# Altium schematic symbol library ESDA6V1-5SC6.SchLib: 2 symbols
Pins are listed as number, name and electrical type; pins without a type are passive.

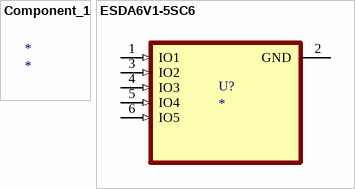
[diagram p0: symbols Component_1 to ESDA6V1-5SC6]

## Component_1
designator *

## ESDA6V1-5SC6
designator U?
MP: ESDA6V1-5SC6; MF: {'manufacturer': u'STMicroelectronics'}; Value: *; Availability: Unavailable; Package: None; Price: None
footprint SOT95P280X145-6N
pins: 1 IO1 (in), 2 GND (power), 3 IO2 (in), 4 IO3 (in), 5 IO4 (in), 6 IO5 (in)